# Altium integrated library Maxim Data Converters.IntLib: 18 symbols
Pins are listed as number, name and electrical type; pins without a type are passive.

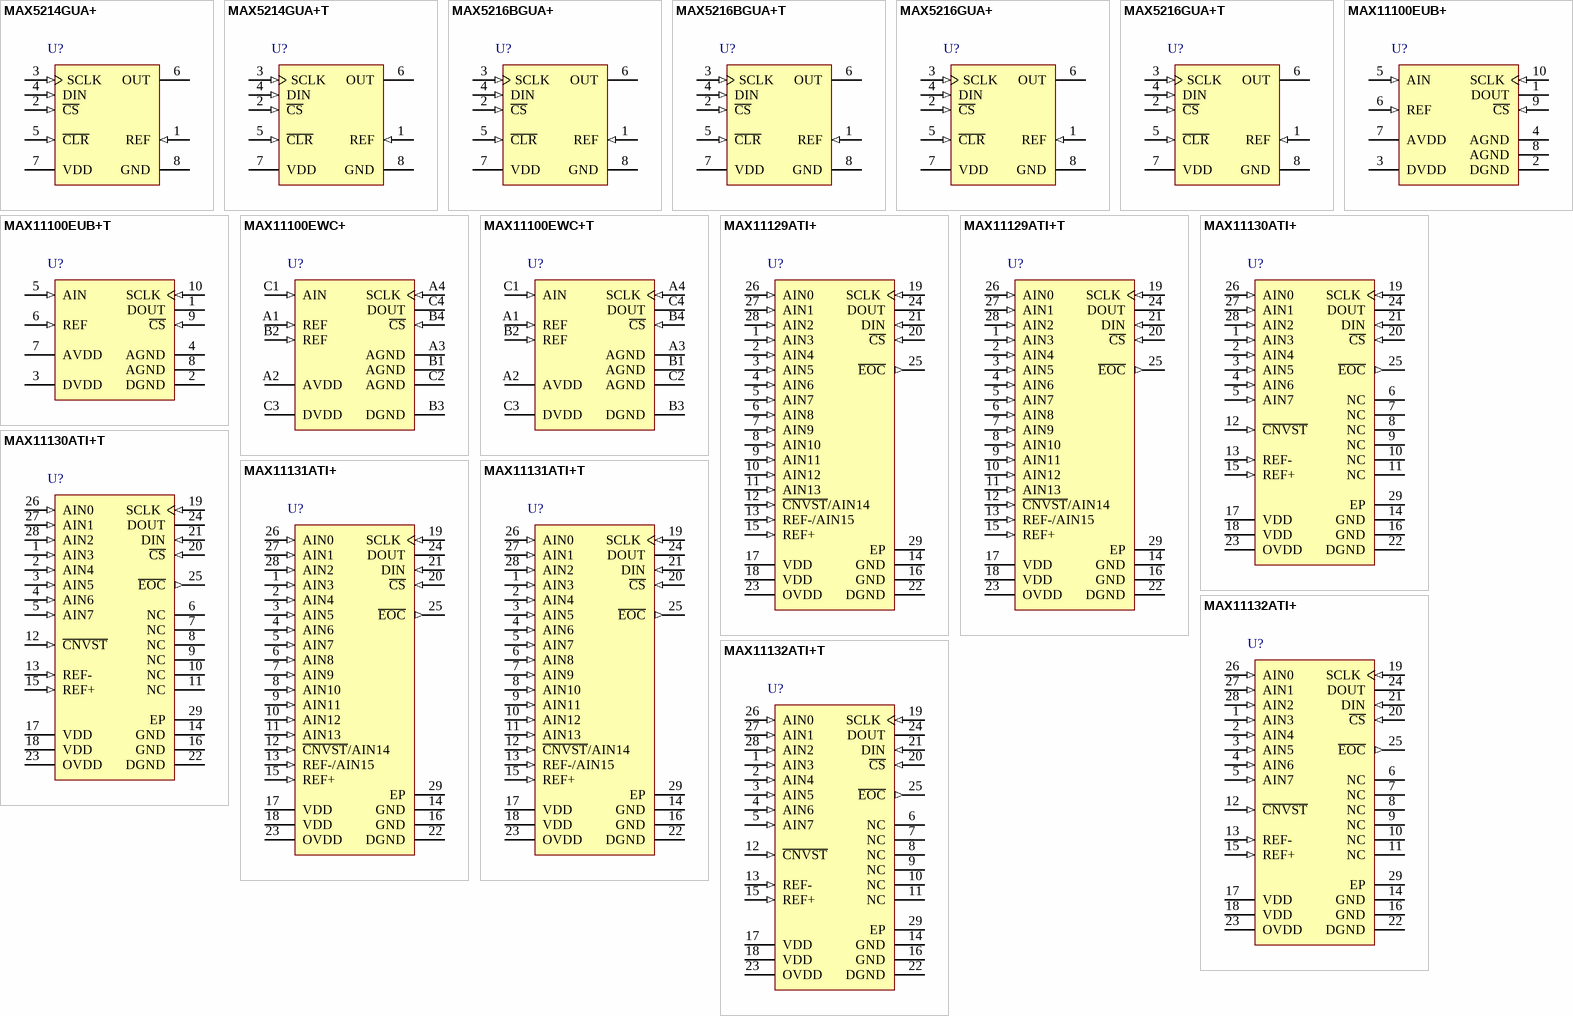
[diagram p0: symbols MAX5214GUA+ to MAX11132ATI+T]

## MAX5214GUA+
designator U?
14-Bit, Low-Power, High-Performance, Buffered Single DAC, 8-Pin uMAX, -40°C to +105°C, Pb-Free; DatasheetVersion: Rev 0, Dec-2010; PackageVersion: revL, 2009; PackageReference: U8+3; PackageDescription: 8-Pin Micro-MAX, Thin Shrink Small-Outline, 0.65 mm Pitch, uMAX, uSOP, Pb-Free; Code_JEDEC: MO-187-AA; ComponentLink1Description: Manufacturer URL; ComponentLink1URL: http://www.maxim-ic.com; ComponentLink2Description: Datasheet; ComponentLink2URL: http://datasheets.maxim-ic.com/en/ds/MAX5214-MAX5216.pdf; ComponentLink3Description: Package Specification; ComponentLink3URL: http://pdfserv.maxim-ic.com/package_dwgs/21-0036.PDF
footprint U8+3_N (TSOP, 8-Leads, Body 3x3mm, Pitch 0.65mm, IPC Medium Density)
footprint U8+3_L (TSOP, 8-Leads, Body 3x3mm, Pitch 0.65mm, IPC High Density)
footprint U8+3_M (TSOP, 8-Leads, Body 3x3mm, Pitch 0.65mm, IPC Low Density)
pins: 1 REF (in), 2 ~{CS} (in), 3 SCLK (in), 4 DIN (in), 5 ~{CLR} (in), 6 OUT (hiz), 7 VDD (power), 8 GND (power)

## MAX5214GUA+T
designator U?
14-Bit, Low-Power, High-Performance, Buffered Single DAC, 8-Pin uMAX, -40°C to +105°C, Pb-Free, Tape and Reel; DatasheetVersion: Rev 0, Dec-2010; PackageVersion: revL, 2009; PackageReference: U8+3; PackageDescription: 8-Pin Micro-MAX, Thin Shrink Small-Outline, 0.65 mm Pitch, uMAX, uSOP, Pb-Free; Code_JEDEC: MO-187-AA; ComponentLink1Description: Manufacturer URL; ComponentLink1URL: http://www.maxim-ic.com; ComponentLink2Description: Datasheet; ComponentLink2URL: http://datasheets.maxim-ic.com/en/ds/MAX5214-MAX5216.pdf; ComponentLink3Description: Package Specification; ComponentLink3URL: http://pdfserv.maxim-ic.com/package_dwgs/21-0036.PDF
footprint U8+3_N (TSOP, 8-Leads, Body 3x3mm, Pitch 0.65mm, IPC Medium Density)
footprint U8+3_L (TSOP, 8-Leads, Body 3x3mm, Pitch 0.65mm, IPC High Density)
footprint U8+3_M (TSOP, 8-Leads, Body 3x3mm, Pitch 0.65mm, IPC Low Density)
pins: 1 REF (in), 2 ~{CS} (in), 3 SCLK (in), 4 DIN (in), 5 ~{CLR} (in), 6 OUT (hiz), 7 VDD (power), 8 GND (power)

## MAX5216BGUA+
designator U?
16-Bit, Low-Power, High-Performance, Buffered Single DAC, 8-Pin uMAX, -40°C to +105°C, Pb-Free; DatasheetVersion: Rev 0, Dec-2010; PackageVersion: revL, 2009; PackageReference: U8+3; PackageDescription: 8-Pin Micro-MAX, Thin Shrink Small-Outline, 0.65 mm Pitch, uMAX, uSOP, Pb-Free; Code_JEDEC: MO-187-AA; ComponentLink1Description: Manufacturer URL; ComponentLink1URL: http://www.maxim-ic.com; ComponentLink2Description: Datasheet; ComponentLink2URL: http://datasheets.maxim-ic.com/en/ds/MAX5214-MAX5216.pdf; ComponentLink3Description: Package Specification; ComponentLink3URL: http://pdfserv.maxim-ic.com/package_dwgs/21-0036.PDF
footprint U8+3_N (TSOP, 8-Leads, Body 3x3mm, Pitch 0.65mm, IPC Medium Density)
footprint U8+3_L (TSOP, 8-Leads, Body 3x3mm, Pitch 0.65mm, IPC High Density)
footprint U8+3_M (TSOP, 8-Leads, Body 3x3mm, Pitch 0.65mm, IPC Low Density)
pins: 1 REF (in), 2 ~{CS} (in), 3 SCLK (in), 4 DIN (in), 5 ~{CLR} (in), 6 OUT (hiz), 7 VDD (power), 8 GND (power)

## MAX5216BGUA+T
designator U?
16-Bit, Low-Power, High-Performance, Buffered Single DAC, 8-Pin uMAX, -40°C to +105°C, Pb-Free, Tape and Reel; DatasheetVersion: Rev 0, Dec-2010; PackageVersion: revL, 2009; PackageReference: U8+3; PackageDescription: 8-Pin Micro-MAX, Thin Shrink Small-Outline, 0.65 mm Pitch, uMAX, uSOP, Pb-Free; Code_JEDEC: MO-187-AA; ComponentLink1Description: Manufacturer URL; ComponentLink1URL: http://www.maxim-ic.com; ComponentLink2Description: Datasheet; ComponentLink2URL: http://datasheets.maxim-ic.com/en/ds/MAX5214-MAX5216.pdf; ComponentLink3Description: Package Specification; ComponentLink3URL: http://pdfserv.maxim-ic.com/package_dwgs/21-0036.PDF
footprint U8+3_N (TSOP, 8-Leads, Body 3x3mm, Pitch 0.65mm, IPC Medium Density)
footprint U8+3_L (TSOP, 8-Leads, Body 3x3mm, Pitch 0.65mm, IPC High Density)
footprint U8+3_M (TSOP, 8-Leads, Body 3x3mm, Pitch 0.65mm, IPC Low Density)
pins: 1 REF (in), 2 ~{CS} (in), 3 SCLK (in), 4 DIN (in), 5 ~{CLR} (in), 6 OUT (hiz), 7 VDD (power), 8 GND (power)

## MAX5216GUA+
designator U?
16-Bit, Low-Power, High-Performance, Buffered Single DAC, 8-Pin uMAX, -40°C to +105°C, Pb-Free; DatasheetVersion: Rev 0, Dec-2010; PackageVersion: revL, 2009; PackageReference: U8+3; PackageDescription: 8-Pin Micro-MAX, Thin Shrink Small-Outline, 0.65 mm Pitch, uMAX, uSOP, Pb-Free; Code_JEDEC: MO-187-AA; ComponentLink1Description: Manufacturer URL; ComponentLink1URL: http://www.maxim-ic.com; ComponentLink2Description: Datasheet; ComponentLink2URL: http://datasheets.maxim-ic.com/en/ds/MAX5214-MAX5216.pdf; ComponentLink3Description: Package Specification; ComponentLink3URL: http://pdfserv.maxim-ic.com/package_dwgs/21-0036.PDF
footprint U8+3_N (TSOP, 8-Leads, Body 3x3mm, Pitch 0.65mm, IPC Medium Density)
footprint U8+3_L (TSOP, 8-Leads, Body 3x3mm, Pitch 0.65mm, IPC High Density)
footprint U8+3_M (TSOP, 8-Leads, Body 3x3mm, Pitch 0.65mm, IPC Low Density)
pins: 1 REF (in), 2 ~{CS} (in), 3 SCLK (in), 4 DIN (in), 5 ~{CLR} (in), 6 OUT (hiz), 7 VDD (power), 8 GND (power)

## MAX5216GUA+T
designator U?
16-Bit, Low-Power, High-Performance, Buffered Single DAC, 8-Pin uMAX, -40°C to +105°C, Pb-Free, Tape and Reel; DatasheetVersion: Rev 0, Dec-2010; PackageVersion: revL, 2009; PackageReference: U8+3; PackageDescription: 8-Pin Micro-MAX, Thin Shrink Small-Outline, 0.65 mm Pitch, uMAX, uSOP, Pb-Free; Code_JEDEC: MO-187-AA; ComponentLink1Description: Manufacturer URL; ComponentLink1URL: http://www.maxim-ic.com; ComponentLink2Description: Datasheet; ComponentLink2URL: http://datasheets.maxim-ic.com/en/ds/MAX5214-MAX5216.pdf; ComponentLink3Description: Package Specification; ComponentLink3URL: http://pdfserv.maxim-ic.com/package_dwgs/21-0036.PDF
footprint U8+3_N (TSOP, 8-Leads, Body 3x3mm, Pitch 0.65mm, IPC Medium Density)
footprint U8+3_L (TSOP, 8-Leads, Body 3x3mm, Pitch 0.65mm, IPC High Density)
footprint U8+3_M (TSOP, 8-Leads, Body 3x3mm, Pitch 0.65mm, IPC Low Density)
pins: 1 REF (in), 2 ~{CS} (in), 3 SCLK (in), 4 DIN (in), 5 ~{CLR} (in), 6 OUT (hiz), 7 VDD (power), 8 GND (power)

## MAX11100EUB+
designator U?
16-Bit, +5V, 200ksps ADC with 10uA Shutdown, 10-Pin uMAX, -40°C to +85°C, Pb-Free; DatasheetVersion: Rev 1, Jan-2012; PackageVersion: revL, 2008; PackageReference: U10+2; PackageDescription: 10-Pin Micro-MAX Thin Shrink Small Outline (uSOP), 3 x 3 x 0.85 mm Body, 0.5 mm Pitch, Pb-Free; Code_JEDEC: MO-187-BA; ComponentLink1Description: Manufacturer URL; ComponentLink1URL: http://www.maxim-ic.com; ComponentLink2Description: Datasheet; ComponentLink2URL: http://datasheets.maxim-ic.com/en/ds/MAX11100.pdf; ComponentLink3Description: Package Specification; ComponentLink3URL: http://pdfserv.maxim-ic.com/package_dwgs/21-0061.PDF
footprint U10+2_N (TSSOP, 10-Leads, Body 3x3mm, Pitch 0.5mm, IPC Medium Density)
footprint U10+2_L (TSSOP, 10-Leads, Body 3x3mm, Pitch 0.5mm, IPC High Density)
footprint U10+2_M (TSSOP, 10-Leads, Body 3x3mm, Pitch 0.5mm, IPC Low Density)
pins: 1 DOUT (hiz), 2 DGND (power), 3 DVDD (power), 4 AGND (power), 5 AIN (in), 6 REF (in), 7 AVDD (power), 8 AGND (power), 9 ~{CS} (in), 10 SCLK (in)

## MAX11100EUB+T
designator U?
16-Bit, +5V, 200ksps ADC with 10uA Shutdown, 10-Pin uMAX, -40°C to +85°C, Pb-Free, Tape and Reel; DatasheetVersion: Rev 1, Jan-2012; PackageVersion: revL, 2008; PackageReference: U10+2; PackageDescription: 10-Pin Micro-MAX Thin Shrink Small Outline (uSOP), 3 x 3 x 0.85 mm Body, 0.5 mm Pitch, Pb-Free; Code_JEDEC: MO-187-BA; ComponentLink1Description: Manufacturer URL; ComponentLink1URL: http://www.maxim-ic.com; ComponentLink2Description: Datasheet; ComponentLink2URL: http://datasheets.maxim-ic.com/en/ds/MAX11100.pdf; ComponentLink3Description: Package Specification; ComponentLink3URL: http://pdfserv.maxim-ic.com/package_dwgs/21-0061.PDF
footprint U10+2_N (TSSOP, 10-Leads, Body 3x3mm, Pitch 0.5mm, IPC Medium Density)
footprint U10+2_L (TSSOP, 10-Leads, Body 3x3mm, Pitch 0.5mm, IPC High Density)
footprint U10+2_M (TSSOP, 10-Leads, Body 3x3mm, Pitch 0.5mm, IPC Low Density)
pins: 1 DOUT (hiz), 2 DGND (power), 3 DVDD (power), 4 AGND (power), 5 AIN (in), 6 REF (in), 7 AVDD (power), 8 AGND (power), 9 ~{CS} (in), 10 SCLK (in)

## MAX11100EWC+
designator U?
16-Bit, +5V, 200ksps ADC with 10uA Shutdown, 12-Pin WLP, -40°C to +85°C, Pb-Free; DatasheetVersion: Rev 1, Jan-2012; PackageVersion: revG, 2010; PackageReference: W121A2+1; PackageDescription: 12-Bump Wafer-Level Package (WLP) 3x4 Bump, Full Array, 0.5 mm Pitch, Pb-Free; ComponentLink1Description: Manufacturer URL; ComponentLink1URL: http://www.maxim-ic.com; ComponentLink2Description: Datasheet; ComponentLink2URL: http://datasheets.maxim-ic.com/en/ds/MAX11100.pdf; ComponentLink3Description: Package Specification; ComponentLink3URL: http://pdfserv.maxim-ic.com/package_dwgs/21-0009.PDF
footprint W121A2+1 (BGA, 12-Leads, Body 1.6x2.2mm, Pitch 0.5mm)
pins: A1 REF (in), A2 AVDD (power), A3 AGND (power), A4 SCLK (in), B1 AGND (power), B2 REF (in), B3 DGND (power), B4 ~{CS} (in), C1 AIN (in), C2 AGND (power), C3 DVDD (power), C4 DOUT (hiz)

## MAX11100EWC+T
designator U?
16-Bit, +5V, 200ksps ADC with 10uA Shutdown, 12-Pin WLP, -40°C to +85°C, Pb-Free, Tape and Reel; DatasheetVersion: Rev 1, Jan-2012; PackageVersion: revG, 2010; PackageReference: W121A2+1; PackageDescription: 12-Bump Wafer-Level Package (WLP) 3x4 Bump, Full Array, 0.5 mm Pitch, Pb-Free; ComponentLink1Description: Manufacturer URL; ComponentLink1URL: http://www.maxim-ic.com; ComponentLink2Description: Datasheet; ComponentLink2URL: http://datasheets.maxim-ic.com/en/ds/MAX11100.pdf; ComponentLink3Description: Package Specification; ComponentLink3URL: http://pdfserv.maxim-ic.com/package_dwgs/21-0009.PDF
footprint W121A2+1 (BGA, 12-Leads, Body 1.6x2.2mm, Pitch 0.5mm)
pins: A1 REF (in), A2 AVDD (power), A3 AGND (power), A4 SCLK (in), B1 AGND (power), B2 REF (in), B3 DGND (power), B4 ~{CS} (in), C1 AIN (in), C2 AGND (power), C3 DVDD (power), C4 DOUT (hiz)

## MAX11129ATI+
designator U?
3Msps, Low-Power, Serial 10-Bit, 16-Channel ADC, 28-Pin TQFN-EP, -40°C to +125°C, Pb-Free; DatasheetVersion: Rev 2, Dec-2012; PackageVersion: revO, 2011; PackageReference: T2855+3; PackageDescription: 28-Pin Thin Quad Flatpack, No Leads, 5 x 5 x 0.75 mm Body, 0.5 mm Pitch, TQFN, Pb-Free; ComponentLink1Description: Manufacturer URL; ComponentLink1URL: http://www.maxim-ic.com; ComponentLink2Description: Datasheet; ComponentLink2URL: http://datasheets.maxim-ic.com/en/ds/MAX11129-MAX11132.pdf; ComponentLink3Description: Package Specification; ComponentLink3URL: http://pdfserv.maxim-ic.com/package_dwgs/21-0140.PDF
footprint T2855+3_N (QFN, 28-Leads, Body 5x5mm, Pitch 0.5mm, Thermal Pad 3.4x3.4mm, IPC Medium Density)
footprint T2855+3_L (QFN, 28-Leads, Body 5x5mm, Pitch 0.5mm, Thermal Pad 3.4x3.4mm, IPC High Density)
footprint T2855+3_M (QFN, 28-Leads, Body 5x5mm, Pitch 0.5mm, Thermal Pad 3.4x3.4mm, IPC Low Density)
pins: 1 AIN3 (in), 2 AIN4 (in), 3 AIN5 (in), 4 AIN6 (in), 5 AIN7 (in), 6 AIN8 (in), 7 AIN9 (in), 8 AIN10 (in), 9 AIN11 (in), 10 AIN12 (in), 11 AIN13 (in), 12 ~{CNVST}/AIN14 (in), 13 REF-/AIN15 (in), 14 GND (power), 15 REF+ (in), 16 GND (power), 17 VDD (power), 18 VDD (power), 19 SCLK (in), 20 ~{CS} (in), 21 DIN (in), 22 DGND (power), 23 OVDD (power), 24 DOUT (hiz), 25 ~{EOC} (out), 26 AIN0 (in), 27 AIN1 (in), 28 AIN2 (in), 29 EP (power)

## MAX11129ATI+T
designator U?
3Msps, Low-Power, Serial 10-Bit, 16-Channel ADC, 28-Pin TQFN-EP, -40°C to +125°C, Pb-Free, Tape and Reel; DatasheetVersion: Rev 2, Dec-2012; PackageVersion: revO, 2011; PackageReference: T2855+3; PackageDescription: 28-Pin Thin Quad Flatpack, No Leads, 5 x 5 x 0.75 mm Body, 0.5 mm Pitch, TQFN, Pb-Free; ComponentLink1Description: Manufacturer URL; ComponentLink1URL: http://www.maxim-ic.com; ComponentLink2Description: Datasheet; ComponentLink2URL: http://datasheets.maxim-ic.com/en/ds/MAX11129-MAX11132.pdf; ComponentLink3Description: Package Specification; ComponentLink3URL: http://pdfserv.maxim-ic.com/package_dwgs/21-0140.PDF
footprint T2855+3_N (QFN, 28-Leads, Body 5x5mm, Pitch 0.5mm, Thermal Pad 3.4x3.4mm, IPC Medium Density)
footprint T2855+3_L (QFN, 28-Leads, Body 5x5mm, Pitch 0.5mm, Thermal Pad 3.4x3.4mm, IPC High Density)
footprint T2855+3_M (QFN, 28-Leads, Body 5x5mm, Pitch 0.5mm, Thermal Pad 3.4x3.4mm, IPC Low Density)
pins: 1 AIN3 (in), 2 AIN4 (in), 3 AIN5 (in), 4 AIN6 (in), 5 AIN7 (in), 6 AIN8 (in), 7 AIN9 (in), 8 AIN10 (in), 9 AIN11 (in), 10 AIN12 (in), 11 AIN13 (in), 12 ~{CNVST}/AIN14 (in), 13 REF-/AIN15 (in), 14 GND (power), 15 REF+ (in), 16 GND (power), 17 VDD (power), 18 VDD (power), 19 SCLK (in), 20 ~{CS} (in), 21 DIN (in), 22 DGND (power), 23 OVDD (power), 24 DOUT (hiz), 25 ~{EOC} (out), 26 AIN0 (in), 27 AIN1 (in), 28 AIN2 (in), 29 EP (power)

## MAX11130ATI+
designator U?
3Msps, Low-Power, Serial 10-Bit, 8-Channel ADC, 28-Pin TQFN-EP, -40°C to +125°C, Pb-Free; DatasheetVersion: Rev 2, Dec-2012; PackageVersion: revO, 2011; PackageReference: T2855+3; PackageDescription: 28-Pin Thin Quad Flatpack, No Leads, 5 x 5 x 0.75 mm Body, 0.5 mm Pitch, TQFN, Pb-Free; ComponentLink1Description: Manufacturer URL; ComponentLink1URL: http://www.maxim-ic.com; ComponentLink2Description: Datasheet; ComponentLink2URL: http://datasheets.maxim-ic.com/en/ds/MAX11129-MAX11132.pdf; ComponentLink3Description: Package Specification; ComponentLink3URL: http://pdfserv.maxim-ic.com/package_dwgs/21-0140.PDF
footprint T2855+3_N (QFN, 28-Leads, Body 5x5mm, Pitch 0.5mm, Thermal Pad 3.4x3.4mm, IPC Medium Density)
footprint T2855+3_L (QFN, 28-Leads, Body 5x5mm, Pitch 0.5mm, Thermal Pad 3.4x3.4mm, IPC High Density)
footprint T2855+3_M (QFN, 28-Leads, Body 5x5mm, Pitch 0.5mm, Thermal Pad 3.4x3.4mm, IPC Low Density)
pins: 1 AIN3 (in), 2 AIN4 (in), 3 AIN5 (in), 4 AIN6 (in), 5 AIN7 (in), 6 NC, 7 NC, 8 NC, 9 NC, 10 NC, 11 NC, 12 ~{CNVST} (in), 13 REF- (in), 14 GND (power), 15 REF+ (in), 16 GND (power), 17 VDD (power), 18 VDD (power), 19 SCLK (in), 20 ~{CS} (in), 21 DIN (in), 22 DGND (power), 23 OVDD (power), 24 DOUT (hiz), 25 ~{EOC} (out), 26 AIN0 (in), 27 AIN1 (in), 28 AIN2 (in), 29 EP (power)

## MAX11130ATI+T
designator U?
3Msps, Low-Power, Serial 10-Bit, 8-Channel ADC, 28-Pin TQFN-EP, -40°C to +125°C, Pb-Free, Tape and Reel; DatasheetVersion: Rev 2, Dec-2012; PackageVersion: revO, 2011; PackageReference: T2855+3; PackageDescription: 28-Pin Thin Quad Flatpack, No Leads, 5 x 5 x 0.75 mm Body, 0.5 mm Pitch, TQFN, Pb-Free; ComponentLink1Description: Manufacturer URL; ComponentLink1URL: http://www.maxim-ic.com; ComponentLink2Description: Datasheet; ComponentLink2URL: http://datasheets.maxim-ic.com/en/ds/MAX11129-MAX11132.pdf; ComponentLink3Description: Package Specification; ComponentLink3URL: http://pdfserv.maxim-ic.com/package_dwgs/21-0140.PDF
footprint T2855+3_N (QFN, 28-Leads, Body 5x5mm, Pitch 0.5mm, Thermal Pad 3.4x3.4mm, IPC Medium Density)
footprint T2855+3_L (QFN, 28-Leads, Body 5x5mm, Pitch 0.5mm, Thermal Pad 3.4x3.4mm, IPC High Density)
footprint T2855+3_M (QFN, 28-Leads, Body 5x5mm, Pitch 0.5mm, Thermal Pad 3.4x3.4mm, IPC Low Density)
pins: 1 AIN3 (in), 2 AIN4 (in), 3 AIN5 (in), 4 AIN6 (in), 5 AIN7 (in), 6 NC, 7 NC, 8 NC, 9 NC, 10 NC, 11 NC, 12 ~{CNVST} (in), 13 REF- (in), 14 GND (power), 15 REF+ (in), 16 GND (power), 17 VDD (power), 18 VDD (power), 19 SCLK (in), 20 ~{CS} (in), 21 DIN (in), 22 DGND (power), 23 OVDD (power), 24 DOUT (hiz), 25 ~{EOC} (out), 26 AIN0 (in), 27 AIN1 (in), 28 AIN2 (in), 29 EP (power)

## MAX11131ATI+
designator U?
3Msps, Low-Power, Serial 12-Bit, 16-Channel ADC, 28-Pin TQFN-EP, -40°C to +125°C, Pb-Free; DatasheetVersion: Rev 2, Dec-2012; PackageVersion: revO, 2011; PackageReference: T2855+3; PackageDescription: 28-Pin Thin Quad Flatpack, No Leads, 5 x 5 x 0.75 mm Body, 0.5 mm Pitch, TQFN, Pb-Free; ComponentLink1Description: Manufacturer URL; ComponentLink1URL: http://www.maxim-ic.com; ComponentLink2Description: Datasheet; ComponentLink2URL: http://datasheets.maxim-ic.com/en/ds/MAX11129-MAX11132.pdf; ComponentLink3Description: Package Specification; ComponentLink3URL: http://pdfserv.maxim-ic.com/package_dwgs/21-0140.PDF
footprint T2855+3_N (QFN, 28-Leads, Body 5x5mm, Pitch 0.5mm, Thermal Pad 3.4x3.4mm, IPC Medium Density)
footprint T2855+3_L (QFN, 28-Leads, Body 5x5mm, Pitch 0.5mm, Thermal Pad 3.4x3.4mm, IPC High Density)
footprint T2855+3_M (QFN, 28-Leads, Body 5x5mm, Pitch 0.5mm, Thermal Pad 3.4x3.4mm, IPC Low Density)
pins: 1 AIN3 (in), 2 AIN4 (in), 3 AIN5 (in), 4 AIN6 (in), 5 AIN7 (in), 6 AIN8 (in), 7 AIN9 (in), 8 AIN10 (in), 9 AIN11 (in), 10 AIN12 (in), 11 AIN13 (in), 12 ~{CNVST}/AIN14 (in), 13 REF-/AIN15 (in), 14 GND (power), 15 REF+ (in), 16 GND (power), 17 VDD (power), 18 VDD (power), 19 SCLK (in), 20 ~{CS} (in), 21 DIN (in), 22 DGND (power), 23 OVDD (power), 24 DOUT (hiz), 25 ~{EOC} (out), 26 AIN0 (in), 27 AIN1 (in), 28 AIN2 (in), 29 EP (power)

## MAX11131ATI+T
designator U?
3Msps, Low-Power, Serial 12-Bit, 16-Channel ADC, 28-Pin TQFN-EP, -40°C to +125°C, Pb-Free, Tape and Reel; DatasheetVersion: Rev 2, Dec-2012; PackageVersion: revO, 2011; PackageReference: T2855+3; PackageDescription: 28-Pin Thin Quad Flatpack, No Leads, 5 x 5 x 0.75 mm Body, 0.5 mm Pitch, TQFN, Pb-Free; ComponentLink1Description: Manufacturer URL; ComponentLink1URL: http://www.maxim-ic.com; ComponentLink2Description: Datasheet; ComponentLink2URL: http://datasheets.maxim-ic.com/en/ds/MAX11129-MAX11132.pdf; ComponentLink3Description: Package Specification; ComponentLink3URL: http://pdfserv.maxim-ic.com/package_dwgs/21-0140.PDF
footprint T2855+3_N (QFN, 28-Leads, Body 5x5mm, Pitch 0.5mm, Thermal Pad 3.4x3.4mm, IPC Medium Density)
footprint T2855+3_L (QFN, 28-Leads, Body 5x5mm, Pitch 0.5mm, Thermal Pad 3.4x3.4mm, IPC High Density)
footprint T2855+3_M (QFN, 28-Leads, Body 5x5mm, Pitch 0.5mm, Thermal Pad 3.4x3.4mm, IPC Low Density)
pins: 1 AIN3 (in), 2 AIN4 (in), 3 AIN5 (in), 4 AIN6 (in), 5 AIN7 (in), 6 AIN8 (in), 7 AIN9 (in), 8 AIN10 (in), 9 AIN11 (in), 10 AIN12 (in), 11 AIN13 (in), 12 ~{CNVST}/AIN14 (in), 13 REF-/AIN15 (in), 14 GND (power), 15 REF+ (in), 16 GND (power), 17 VDD (power), 18 VDD (power), 19 SCLK (in), 20 ~{CS} (in), 21 DIN (in), 22 DGND (power), 23 OVDD (power), 24 DOUT (hiz), 25 ~{EOC} (out), 26 AIN0 (in), 27 AIN1 (in), 28 AIN2 (in), 29 EP (power)

## MAX11132ATI+
designator U?
3Msps, Low-Power, Serial 12-Bit, 8-Channel ADC, 28-Pin TQFN-EP, -40°C to +125°C, Pb-Free; DatasheetVersion: Rev 2, Dec-2012; PackageVersion: revO, 2011; PackageReference: T2855+3; PackageDescription: 28-Pin Thin Quad Flatpack, No Leads, 5 x 5 x 0.75 mm Body, 0.5 mm Pitch, TQFN, Pb-Free; ComponentLink1Description: Manufacturer URL; ComponentLink1URL: http://www.maxim-ic.com; ComponentLink2Description: Datasheet; ComponentLink2URL: http://datasheets.maxim-ic.com/en/ds/MAX11129-MAX11132.pdf; ComponentLink3Description: Package Specification; ComponentLink3URL: http://pdfserv.maxim-ic.com/package_dwgs/21-0140.PDF
footprint T2855+3_N (QFN, 28-Leads, Body 5x5mm, Pitch 0.5mm, Thermal Pad 3.4x3.4mm, IPC Medium Density)
footprint T2855+3_L (QFN, 28-Leads, Body 5x5mm, Pitch 0.5mm, Thermal Pad 3.4x3.4mm, IPC High Density)
footprint T2855+3_M (QFN, 28-Leads, Body 5x5mm, Pitch 0.5mm, Thermal Pad 3.4x3.4mm, IPC Low Density)
pins: 1 AIN3 (in), 2 AIN4 (in), 3 AIN5 (in), 4 AIN6 (in), 5 AIN7 (in), 6 NC, 7 NC, 8 NC, 9 NC, 10 NC, 11 NC, 12 ~{CNVST} (in), 13 REF- (in), 14 GND (power), 15 REF+ (in), 16 GND (power), 17 VDD (power), 18 VDD (power), 19 SCLK (in), 20 ~{CS} (in), 21 DIN (in), 22 DGND (power), 23 OVDD (power), 24 DOUT (hiz), 25 ~{EOC} (out), 26 AIN0 (in), 27 AIN1 (in), 28 AIN2 (in), 29 EP (power)

## MAX11132ATI+T
designator U?
3Msps, Low-Power, Serial 12-Bit, 8-Channel ADC, 28-Pin TQFN-EP, -40°C to +125°C, Pb-Free, Tape and Reel; DatasheetVersion: Rev 2, Dec-2012; PackageVersion: revO, 2011; PackageReference: T2855+3; PackageDescription: 28-Pin Thin Quad Flatpack, No Leads, 5 x 5 x 0.75 mm Body, 0.5 mm Pitch, TQFN, Pb-Free; ComponentLink1Description: Manufacturer URL; ComponentLink1URL: http://www.maxim-ic.com; ComponentLink2Description: Datasheet; ComponentLink2URL: http://datasheets.maxim-ic.com/en/ds/MAX11129-MAX11132.pdf; ComponentLink3Description: Package Specification; ComponentLink3URL: http://pdfserv.maxim-ic.com/package_dwgs/21-0140.PDF
footprint T2855+3_N (QFN, 28-Leads, Body 5x5mm, Pitch 0.5mm, Thermal Pad 3.4x3.4mm, IPC Medium Density)
footprint T2855+3_L (QFN, 28-Leads, Body 5x5mm, Pitch 0.5mm, Thermal Pad 3.4x3.4mm, IPC High Density)
footprint T2855+3_M (QFN, 28-Leads, Body 5x5mm, Pitch 0.5mm, Thermal Pad 3.4x3.4mm, IPC Low Density)
pins: 1 AIN3 (in), 2 AIN4 (in), 3 AIN5 (in), 4 AIN6 (in), 5 AIN7 (in), 6 NC, 7 NC, 8 NC, 9 NC, 10 NC, 11 NC, 12 ~{CNVST} (in), 13 REF- (in), 14 GND (power), 15 REF+ (in), 16 GND (power), 17 VDD (power), 18 VDD (power), 19 SCLK (in), 20 ~{CS} (in), 21 DIN (in), 22 DGND (power), 23 OVDD (power), 24 DOUT (hiz), 25 ~{EOC} (out), 26 AIN0 (in), 27 AIN1 (in), 28 AIN2 (in), 29 EP (power)